# EAGLE library part ST1W008S4E (library con-JAE)
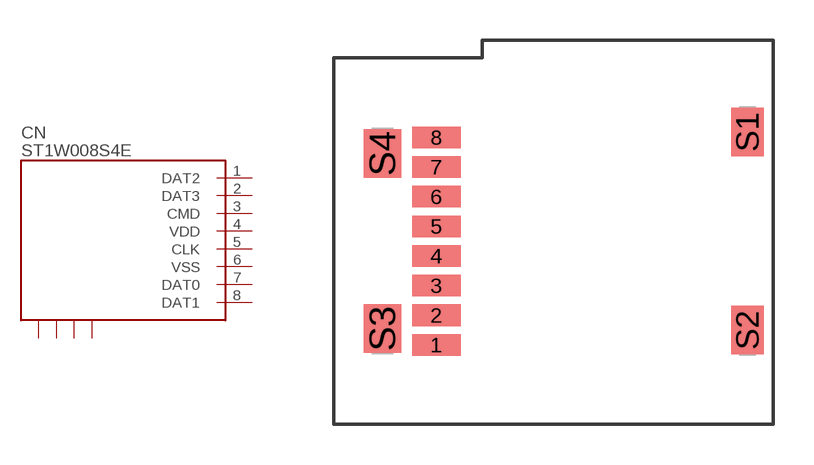
[diagram p3: symbol with the pads of ST1W008S4E; footprint ST1W008S4E]

Designator prefix CN

## ST1W008S4E  [ST1W008S4E]
1  DAT2  pas
2  DAT3  pas
3  CMD  pas
4  VDD  pas
5  CLK  pas
6  VSS  pas
7  DAT0  pas
8  DAT1  pas
S1  S1  pas
S2  S2  pas
S3  S3  pas
S4  S4  pas

## Footprint ST1W008S4E (pad centres in mm)
smd 1.8 x 0.8: 1 -4.5,-3.85; 2 -4.5,-2.75; 3 -4.5,-1.65; 4 -4.5,-0.55; 5 -4.5,0.55; 6 -4.5,1.65; 7 -4.5,2.75; 8 -4.5,3.85
smd 1.2 x 1.8: S1 7.05,4.05; S2 7.05,-3.3
smd 1.4 x 1.8: S3 -6.5,-3.25; S4 -6.5,3.25